# Altium schematic symbol library car.SchLib: 30 symbols
Pins are listed as number, name and electrical type; pins without a type are passive.

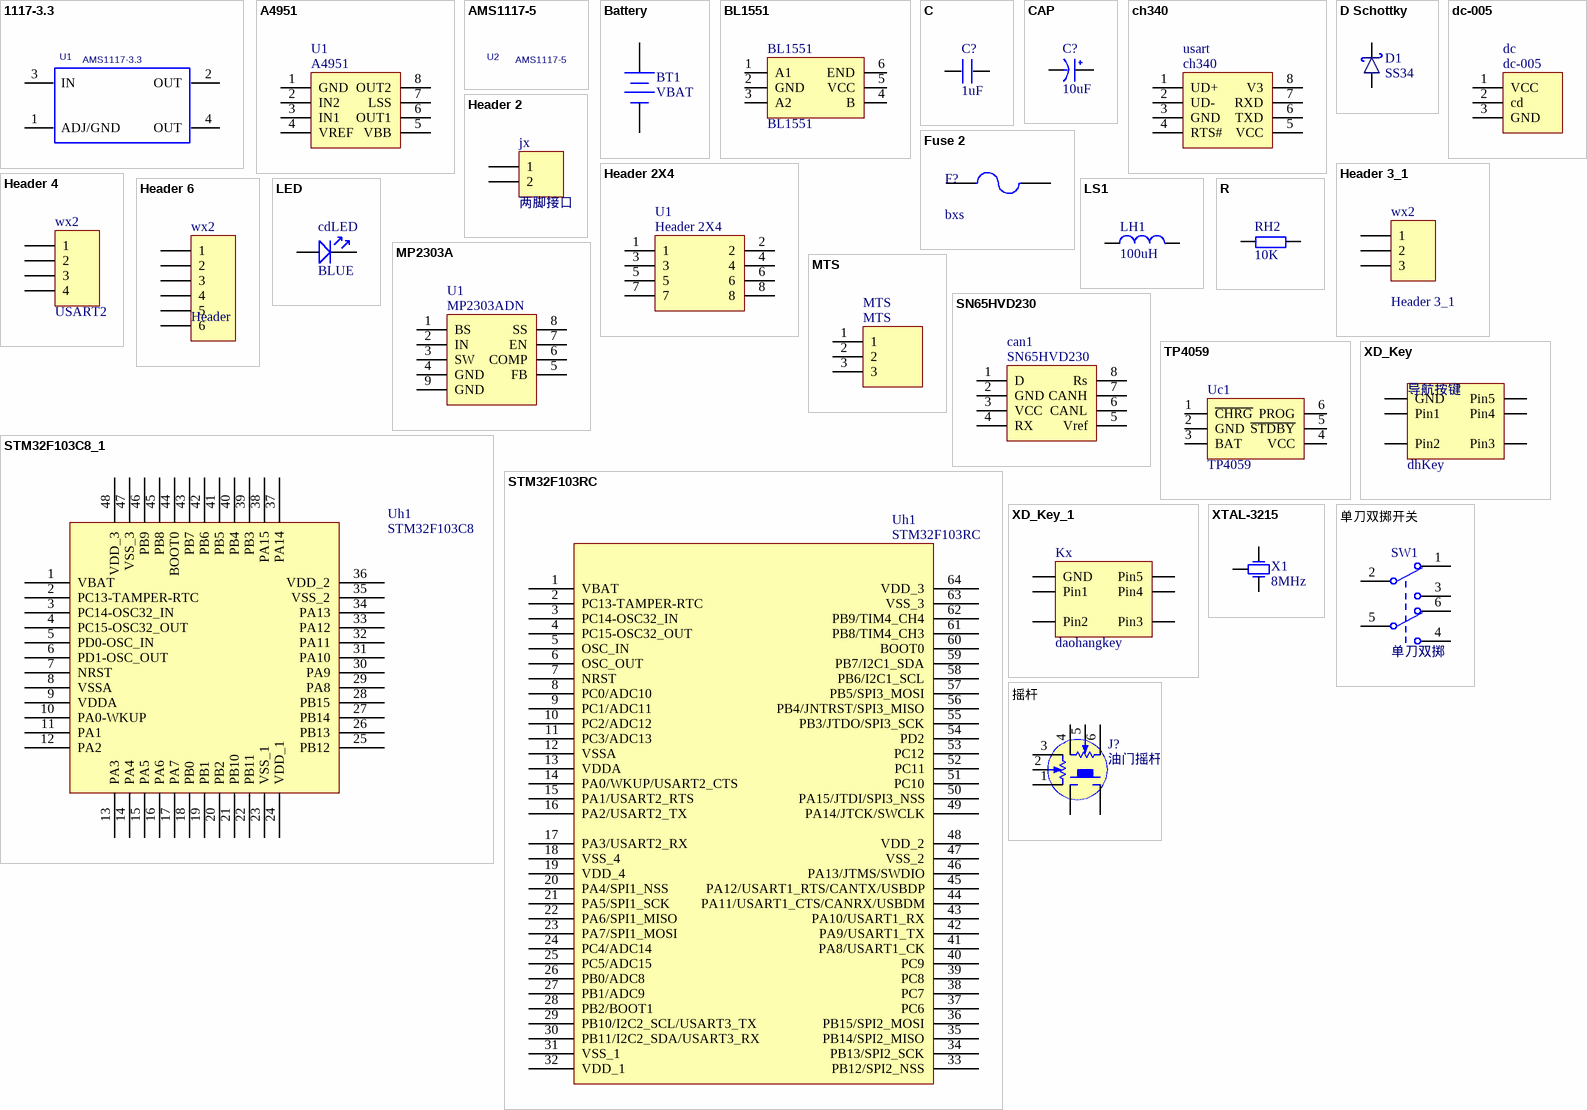
[diagram p0: symbols 1117-3.3 to 摇杆]

## 1117-3.3
designator U1, comment AMS1117-3.3
SOT-223; Manufacturer #1: SPX; Geometry.Height: 62.99mil; Manufacturer #1 PN: 1117-3.3
footprint LC-SOT-223
pins: 1 ADJ/GND, 2 OUT, 3 IN, 4 OUT

## A4951
designator U1
footprint SOIC-8 (a4950、mp2303a)
pins: 1 GND, 2 IN2, 3 IN1, 4 VREF, 5 VBB, 6 OUT1, 7 LSS, 8 OUT2

## AMS1117-5
designator U2
SOT-223; Manufacturer #1: SPX; Geometry.Height: 62.99mil; Manufacturer #1 PN: 1117-3.3
footprint LC-SOT-223

## Battery
designator BT1, comment VBAT
Multicell Battery; Published: 24-Mar-1999; LatestRevisionDate: 17-Jul-2002; LatestRevisionNote: Re-released for DXP Platform.; PackageReference: BAT-2; Publisher: Altium Limited
footprint BAT-2 (Multicell Battery; 2 Leads)
footprint BAT_tp
footprint L0603 (LED)
pins: 1 +, 2 -

## BL1551
designator BL1551
footprint SOT-363
pins: 1 A1, 2 GND, 3 A2, 4 B, 5 VCC, 6 END

## C
designator C?, comment 1uF
footprint 0805
footprint CC5.08 (CAP0.1)
footprint CC4.572 (222/332)
footprint 1206
footprint 1210
footprint CC6.096
footprint CC7.62
footprint C 5.08    7.5mm x4.5mm
footprint C  P5-7-10  W=4mm (P5/P7/P10      W=4mm)
footprint C  P5-7-10  W=9mm (P5/P7/P10      W=9mm)
footprint 0402
footprint 1218
footprint 2010
footprint 2512
footprint LC-0603_R
pins: 1, 2

## CAP
designator C?, comment 10uF
footprint C1206
footprint CAP2.54 (RB.1/.2)
footprint CAP7.62 (25V 2200uF)
footprint CAP10.16 (50V10000uF)
footprint CAP10.9 (50V 2200uF)
footprint CAP3.0 (100V 10uF)
footprint CAP8.0 (25V/4700uF)
footprint CAP8.0_2 (50V/4700uF)
footprint C7040 (7MM*4MM)
footprint CC1010 (SMD;W:10mm;L:10mm;)
footprint CC6.56.5 (SMD;W:6.5mm;L:6.5mm;)
footprint CC88 (SMD;W:8mm;L:8mm;)
footprint CAP2.54M (6mm*8mm)
footprint CAP12.5 (12.5mm*20mm,pin:5.08mm)
footprint C3528
footprint CC5.35.3
footprint CAP7.62  侧式 (50V 4700uF)
footprint CAP7.62  侧式 - A (50V 4700uF)
footprint 0805
footprint CAP5.08 R=13 侧式 (RB 5.08  13x20)
footprint CAP5.08 R=13 侧式-A (RB 5.08  13x20)
footprint CAP5.08 R=10 (RB 5.08/10)
footprint CAP5.08 R=13 (RB 5.08/13)
pins: 1 VCC, 2 GND

## ch340
designator usart
footprint SOIC-8 (a4950、mp2303a)
footprint SOIC-8 (a4950、mp2303a)
footprint SOP8 (SOP)
pins: 1 UD+, 2 UD-, 3 GND, 4 RTS#, 5 VCC, 6 TXD, 7 RXD, 8 V3

## D Schottky
designator D1, comment SS34
ST SS34
footprint SMA(DO-214AC)
pins: 1, 2

## dc-005
designator dc
footprint SOIC-8 (a4950、mp2303a)
footprint DC-005
pins: 1 VCC, 2 cd, 3 GND

## Fuse 2
designator F?, comment bxs
Fuse; Published: 8-Jun-2000; LatestRevisionDate: 17-Jul-2002; LatestRevisionNote: Re-released for DXP Platform.; PackageReference: PIN-W2/E2.8; Publisher: Altium Limited; PackageDescription: Thru-Hole; 2 Leads
footprint PIN-W2/E2.8 (Thru-Hole; 2 Leads)
simulation model FUSE (Spice Subcircuit)
pins: 1, 2

## Header 2
designator jx, comment 两脚接口
Header, 2-Pin; LatestRevisionDate: 17-Jul-2002; LatestRevisionNote: Re-released for DXP Platform.; Publisher: Altium Limited
footprint HDR1X2 (Connector; Header; 2 Position)
signal-integrity model Connector
footprint FMQ_tp (Connector; Header; 6 Position)
pins: 1, 2

## Header 2X4
designator U1
HDE2X4
footprint SOIC-8 (a4950、mp2303a)
footprint HDE2X4_2.54
pins: 1, 2, 3, 4, 5, 6, 7, 8

## Header 3_1
designator wx2
LatestRevisionDate: 17-Jul-2002; LatestRevisionNote: Re-released for DXP Platform.; Publisher: Altium Limited
footprint HDR1X4 (Connector; Header; 4 Position)
signal-integrity model Connector
pins: 1, 2, 3

## Header 4
designator wx2, comment USART2
Header, 4-Pin; LatestRevisionDate: 17-Jul-2002; LatestRevisionNote: Re-released for DXP Platform.; Publisher: Altium Limited
footprint HDR1X4 (Connector; Header; 4 Position)
signal-integrity model Connector
pins: 1, 2, 3, 4

## Header 6
designator wx2, comment Header
Header, 6-Pin; LatestRevisionDate: 17-Jul-2002; LatestRevisionNote: Re-released for DXP Platform.; Publisher: Altium Limited
footprint HDR1X4 (Connector; Header; 4 Position)
signal-integrity model Connector
pins: 1, 2, 3, 4, 5, 6

## LED
designator cdLED, comment BLUE
footprint SMDLED
footprint LED-DIP (PIN:2.54MM;H:5MM;)
footprint LED 2.54 DIP
footprint 0603
footprint LC-0603_R
footprint L0603 (LED)
pins: 1, 2

## LS1
designator LH1, comment 100uH
footprint R0603
footprint 0603
footprint LC-0603_R
footprint 0805
pins: 1, 2

## MP2303A
designator U1, comment MP2303ADN
MPS MP2303ADN-LF-Z
footprint MP2303A
pins: 1 BS, 2 IN, 3 SW, 4 GND, 5 FB, 6 COMP, 7 EN, 8 SS, 9 GND

## MTS
designator MTS
footprint SOIC-8 (a4950、mp2303a)
footprint DC-005
footprint MTS-102
pins: 1, 2, 3

## R
designator RH2, comment 10K
footprint R0603
footprint 0603P
footprint RL (10o/0.7uH)
footprint R16.0 (RX/1W)
footprint 1206
footprint 1210
footprint R20.0 (RX/2W)
footprint R10.16 (STD)
footprint RLN9 (13.5mm*5.1mm)
footprint 1218
footprint 2010
footprint 2512
footprint 0402
footprint 0402P
footprint LC-0603_R
footprint R0603
pins: 1, 2

## SN65HVD230
designator can1
footprint SOIC-8 (a4950、mp2303a)
footprint SOIC-8 (a4950、mp2303a)
pins: 1 D, 2 GND, 3 VCC, 4 RX, 5 Vref, 6 CANL, 7 CANH, 8 Rs

## STM32F103C8_1
designator Uh1, comment STM32F103C8
footprint LQFP48_M
footprint mTQFP48
footprint LQFP48_M
pins: 1 VBAT, 2 PC13-TAMPER-RTC, 3 PC14-OSC32_IN, 4 PC15-OSC32_OUT, 5 PD0-OSC_IN, 6 PD1-OSC_OUT, 7 NRST, 8 VSSA, 9 VDDA, 10 PA0-WKUP, 11 PA1, 12 PA2, 13 PA3, 14 PA4, 15 PA5, 16 PA6, 17 PA7, 18 PB0, 19 PB1, 20 PB2, 21 PB10, 22 PB11, 23 VSS_1, 24 VDD_1, 25 PB12, 26 PB13, 27 PB14, 28 PB15, 29 PA8, 30 PA9, 31 PA10, 32 PA11, 33 PA12, 34 PA13, 35 VSS_2, 36 VDD_2, 37 PA14, 38 PA15, 39 PB3, 40 PB4, 41 PB5, 42 PB6, 43 PB7, 44 BOOT0, 45 PB8, 46 PB9, 47 VSS_3, 48 VDD_3

## STM32F103RC
designator Uh1
footprint LQFP48_M
footprint mTQFP48
footprint LQFP48_M
footprint LQFP64
pins: 1 VBAT, 2 PC13-TAMPER-RTC, 3 PC14-OSC32_IN, 4 PC15-OSC32_OUT, 5 OSC_IN, 6 OSC_OUT, 7 NRST, 8 PC0/ADC10, 9 PC1/ADC11, 10 PC2/ADC12, 11 PC3/ADC13, 12 VSSA, 13 VDDA, 14 PA0/WKUP/USART2_CTS, 15 PA1/USART2_RTS, 16 PA2/USART2_TX, 17 PA3/USART2_RX, 18 VSS_4, 19 VDD_4, 20 PA4/SPI1_NSS, 21 PA5/SPI1_SCK, 22 PA6/SPI1_MISO, 23 PA7/SPI1_MOSI, 24 PC4/ADC14, 25 PC5/ADC15, 26 PB0/ADC8, 27 PB1/ADC9, 28 PB2/BOOT1, 29 PB10/I2C2_SCL/USART3_TX, 30 PB11/I2C2_SDA/USART3_RX, 31 VSS_1, 32 VDD_1, 33 PB12/SPI2_NSS, 34 PB13/SPI2_SCK, 35 PB14/SPI2_MISO, 36 PB15/SPI2_MOSI, 37 PC6, 38 PC7, 39 PC8, 40 PC9, 41 PA8/USART1_CK, 42 PA9/USART1_TX, 43 PA10/USART1_RX, 44 PA11/USART1_CTS/CANRX/USBDM, 45 PA12/USART1_RTS/CANTX/USBDP, 46 PA13/JTMS/SWDIO, 47 VSS_2, 48 VDD_2, 49 PA14/JTCK/SWCLK, 50 PA15/JTDI/SPI3_NSS, 51 PC10, 52 PC11, 53 PC12, 54 PD2, 55 PB3/JTDO/SPI3_SCK, 56 PB4/JNTRST/SPI3_MISO, 57 PB5/SPI3_MOSI, 58 PB6/I2C1_SCL, 59 PB7/I2C1_SDA, 60 BOOT0, 61 PB8/TIM4_CH3, 62 PB9/TIM4_CH4, 63 VSS_3, 64 VDD_3

## TP4059
designator Uc1
footprint SOT23-6S
pins: 1 ~{CHRG}, 2 GND, 3 BAT, 4 VCC, 5 ~{STDBY}, 6 PROG

## XD_Key
designator 导航按键, comment dhKey
xiangdaoKey
footprint daoxiangbutton (导向按键)
pins: 1 GND, 2 Pin1, 3 Pin2, 4 Pin3, 5 Pin4, 6 Pin5

## XD_Key_1
designator Kx, comment daohangkey
xiangdaoKey
footprint daoxiangbutton (导向按键)
footprint daohangKey (导向按键)
pins: 1 GND, 2 Pin1, 3 Pin2, 4 Pin3, 5 Pin4, 6 Pin5

## XTAL-3215
designator X1, comment 8MHz
footprint XTAL3215
pins: 1 OSC1, 2 GND, 3 OSC2

## 单刀双掷开关
designator SW1, comment 单刀双掷
单刀双掷开关
footprint 拨动开关DIP (Connector; Header; 3x2 Position)
pins: 1, 2, 3, 4, 5, 6

## 摇杆
designator J?, comment 油门摇杆
摇杆
footprint Model Name (Footprint not found)
footprint 摇杆A
pins: 1, 2, 3, 4, 5, 6, J1, J2